# EAGLE library part EG3011 (library mosfet_drivers)
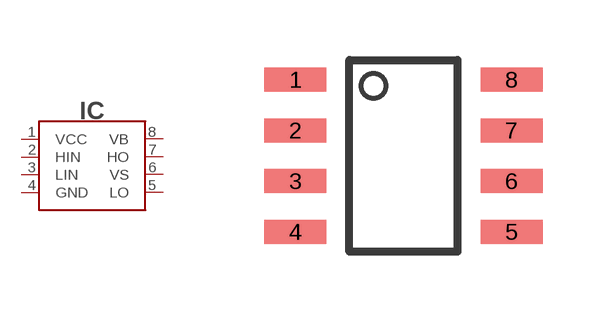
[diagram p5: symbol with the pads of SOIC8; footprint SOIC8]

Designator prefix IC

## EG3011 (LCSC#: C91434; MANF: EG Micro; MANF#: EG3011C)  [SOIC8]
1  VCC
2  HIN
3  LIN
4  GND
5  LO
6  VS
7  HO
8  VB

## Footprint SOIC8 (pad centres in mm)
https://www.ti.com/lit/ds/snvsaq5a/snvsaq5a.pdf?ts=1602424164509
smd 1.55 x 0.6: 1 -2.7,1.905; 2 -2.7,0.635; 3 -2.7,-0.635; 4 -2.7,-1.905; 5 2.7,-1.905; 6 2.7,-0.635; 7 2.7,0.635; 8 2.7,1.905